# EAGLE library part CD40109B-16SOIC (library SCADA_CUSTOM_LIBRARY)
Hex buffer (or up/down level translator) with tri-state outputs VDD > VCC - low-to-high level translation Vcc > Vdd - High to low level translation http://www.ti.com/lit/ds/symlink/cd40109b.pdf
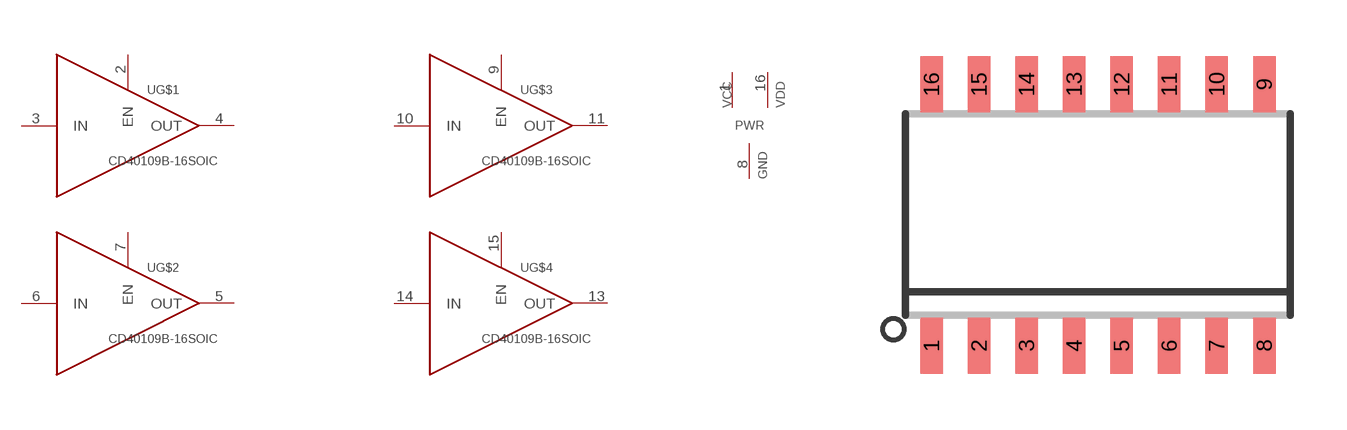
[diagram p8: symbol with the pads of SO16NS; footprint SO16NS]

Designator prefix U; gates G$1=BUFFER G$2=BUFFER G$3=BUFFER G$4=BUFFER G$5=CD40109B_PWR

## CD40109B-16SOIC  [SO16NS]
1  G$5:VCC  pwr
2  G$1:EN  in
3  G$1:IN  in
4  G$1:OUT  out
5  G$2:OUT  out
6  G$2:IN  in
7  G$2:EN  in
8  G$5:GND  pwr
9  G$3:EN  in
10  G$3:IN  in
11  G$3:OUT  out
13  G$4:OUT  out
14  G$4:IN  in
15  G$4:EN  in
16  G$5:VDD  pwr

## Footprint SO16NS (pad centres in mm)
Platic Small Outline NS R-PDSO-G16 Source: www.ti.com .. cd74hct191.pdf
smd 0.6 x 1.5: 1 -4.445,-3.49; 2 -3.175,-3.49; 3 -1.905,-3.49; 4 -0.635,-3.49; 5 0.635,-3.49; 6 1.905,-3.49; 7 3.175,-3.49; 8 4.445,-3.49; 9 4.445,3.49; 10 3.175,3.49; 11 1.905,3.49; 12 0.635,3.49; 13 -0.635,3.49; 14 -1.905,3.49; 15 -3.175,3.49; 16 -4.445,3.49